# EAGLE library part BCR135S (library isystems)
Infineon NPN Transistor with Bias Resistor Built in bias resistor (R1 = 10K, R2= 47K) Automotive Qualified according to AEC Q101 Datasheet: http://www.infineon.com/dgdl/bcr135series.pdf?folderId=db3a30431400ef68011406f3ddb1012e&fileId=db3a30431428a37301143f8b054a0289 Web: http://www.infineon.com/cms/de/product/transistor-and-diode/bipolar-transistor/digital-transistor/BCR135/productType.html?productType=ff80808112ab681d0112ab6f88062592
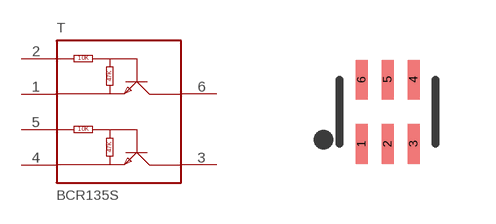
[diagram p11: symbol with the pads of SOT363B; footprint SOT363B]

Designator prefix T

## BCR135S  [SOT363B]
1  E1
2  B1
3  C2
4  E2
5  B2
6  C1

## Footprint SOT363B (pad centres in mm)
smd 0.3 x 0.99: 1 -0.65,-0.8; 2 0,-0.8; 3 0.65,-0.8; 4 0.65,0.81; 5 0,0.81; 6 -0.65,0.81